# Altium schematic symbol library CRYSTAL_4Pad.SchLib: 1 symbol
Pins are listed as number, name and electrical type; pins without a type are passive.

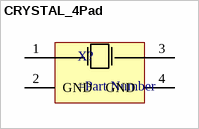
[diagram p0: symbol CRYSTAL_4Pad]

## CRYSTAL_4Pad
designator X?
=Description
pins: 1 X1, 2 GND (power), 3 X2, 4 GND (power)